# Altium schematic symbol library LT6020IDD-1_PBF.SCHLIB: 1 symbol
Pins are listed as number, name and electrical type; pins without a type are passive.

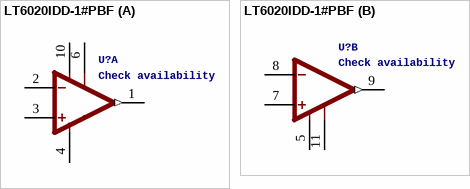
[diagram p0: symbol LT6020IDD-1#PBF]

## LT6020IDD-1#PBF
designator U?, comment Check availability
GateName_1: G$1; SymbolName_1: LT6020IDD-1#PBF_SECTION1; GateName_2: G$2; SymbolName_2: LT6020IDD-1#PBF_SECTION2; DeviceSetName: LT6020IDD-1#PBF; MF: Analog Devices; LibraryName: LT6020IDD-1_PBF; Purchase-URL: https://pricing.snapeda.com/search/part/LT6020IDD-1#PBF/?ref=eda; Package: DFN -10 Analog Devices; MP: LT6020IDD-1#PBF; Price: None; Availability: In Stock
footprint SON50P300X300X80-11N
part A pins: 1 OUTA (out), 2 -INA, 3 +INA, 4 V- (power), 6 EN, 10 V+ (power)
part B pins: 5 DGND (power), 7 +INB, 8 -INB, 9 OUTB (out), 11 (power)